# Altium schematic symbol library TPS25221DRVR.SchLib: 1 symbol
Pins are listed as number, name and electrical type; pins without a type are passive.

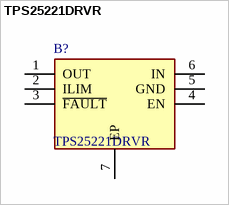
[diagram p0: symbol TPS25221DRVR]

## TPS25221DRVR
designator B?
Precision Adjustable Current-Limited Power-Distribution Switches; Manufacturer_Name: Texas Instruments; Geometry.Height: 0.8mm; Mouser Part Number: 595-TPS25221DRVR; Mouser Price/Stock: https://www.mouser.co.uk/ProductDetail/Texas-Instruments/TPS25221DRVR?qs=y6ZabgHbY%252BwMfKdJX5xA9w%3D%3D; Manufacturer_Part_Number: TPS25221DRVR; Datasheet Link: http://www.ti.com/lit/gpn/TPS25221
footprint SON65P200X200X80-7N
pins: 1 OUT, 2 ILIM, 3 ~{FAULT}, 4 EN, 5 GND, 6 IN, 7 EP